# Altium schematic symbol library CSD16301Q2.SchLib: 1 symbol
Pins are listed as number, name and electrical type; pins without a type are passive.

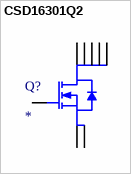
[diagram p0: symbol CSD16301Q2]

## CSD16301Q2
designator Q?
pins: 1 D, 2 D, 3 G, 4 S, 5 D, 6 D, 7 D, 8 S